# Altium footprint library ICs.PcbLib: 109 footprints (part 4 of 7)
Each footprint in its own frame and in the unit in brackets; x right, y up, seen from the top. Pads: shape width x height; smd on the part's side, far side on the other; paste and mask are expansions set on the pad; w line width, h text height; cw(c..) or ccw(c..) is an arc to the next point about the centre after c.
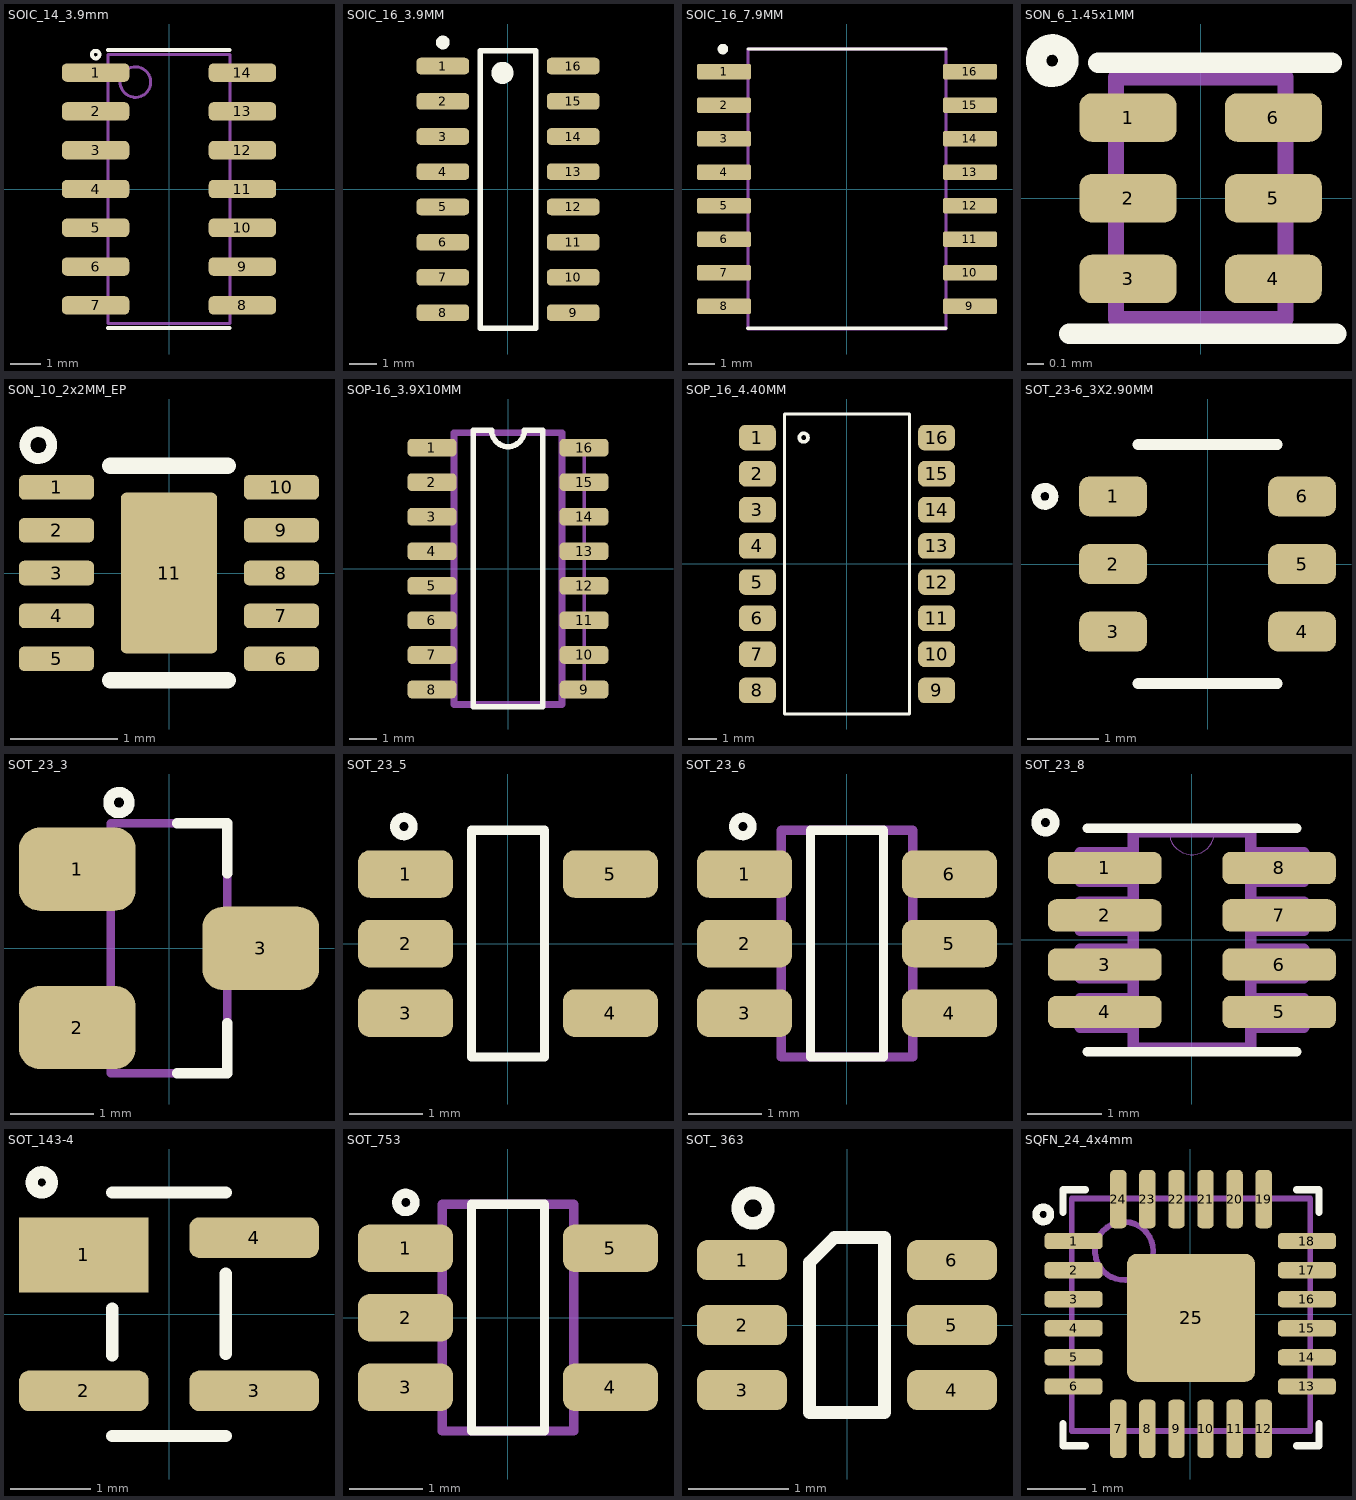
[diagram p3: the footprints below, top view; thin cyan lines are the x and y axes]

## SOIC_14_3.9mm [mm] "SO_14 / 20190225 / C-A.Serna.A"
pads (14):
  rrect50% 2.2x0.6 smd: 1(-2.4,3.81) 2(-2.4,2.54) 3(-2.4,1.27) 4(-2.4,0) 5(-2.4,-1.27) 6(-2.4,-2.54) 7(-2.4,-3.81) 8(2.4,-3.81) 9(2.4,-2.54) 10(2.4,-1.27) 11(2.4,0) 12(2.4,1.27) 13(2.4,2.54) 14(2.4,3.81)
Top Overlay:
  circle w0.127: c-2.4,4.4 r0.125
  lines w0.127: -2.007,-4.547 1.981,-4.547 ; -2.007,4.547 1.981,4.547
Mechanical 1:
  circle w0.1: c-1.1,3.5 r0.5
  lines w0.1: -2,-4.4 -2,4.4 2,4.4 2,-4.4 -2,-4.4
3D body "NOPB.STEP": height 1.75, standoff 0, extent -3,-4.325 3,4.325

## SOIC_16_3.9MM [mm] "/20201210/M-C.Calderon"
pads (16):
  rrect50% 1.9x0.6 smd: 1(-2.35,4.445) 2(-2.35,3.175) 3(-2.35,1.905) 4(-2.35,0.635) 5(-2.35,-0.635) 6(-2.35,-1.905) 7(-2.35,-3.175) 8(-2.35,-4.445) 9(2.35,-4.445) 10(2.35,-3.175) 11(2.35,-1.905) 12(2.35,-0.635) 13(2.35,0.635) 14(2.35,1.905) 15(2.35,3.175) 16(2.35,4.445)
Top Overlay:
  circle w0.25: c-2.35,5.295 r0.125
  circle w0.4: c-0.2,4.2 r0.2
  lines w0.2: -1,-5 -1,5 1,5 1,-5 -1,-5
3D body "TLV5627CD.STEP": height 1.75, standoff 0, extent -2.997,-4.953 2.997,4.953

## SOIC_16_7.9MM [mm] "/20220107/J-E.Pachon"
pads (16):
  rrect25% 2.05x0.59 smd: 1(-4.655,4.445) 2(-4.655,3.175) 3(-4.655,1.905) 4(-4.655,0.635) 5(-4.655,-0.635) 6(-4.655,-1.905) 7(-4.655,-3.175) 8(-4.655,-4.445) 9(4.655,-4.445) 10(4.655,-3.175) 11(4.655,-1.905) 12(4.655,-0.635) 13(4.655,0.635) 14(4.655,1.905) 15(4.655,3.175) 16(4.655,4.445)
Top Overlay:
  circle w0.2: c-4.697,5.3 r0.1
  lines w0.127: -3.76,-5.277 3.74,-5.277 ; -3.75,5.3 3.75,5.3
Mechanical 13:
  lines w0.127: -3.75,-5.288 3.75,-5.288 3.75,5.3 -3.75,5.3 -3.75,-5.288
3D body "DS3231SN.STEP": height 2.65, standoff 0, extent -5.245,-5.15 5.08,5.15

## SON_6_1.45x1MM [mm] "UFDFN_6/20210405/V-A.Patino"
pads (6):
  rrect50% 0.6x0.3 smd: 1(-0.45,0.5) 2(-0.45,0) 3(-0.45,-0.5) 4(0.45,-0.5) 5(0.45,0) 6(0.45,0.5)
Top Overlay:
  circle w0.127: c-0.92,0.853 r0.1
  lines w0.127: -0.813,-0.838 0.838,-0.838 ; -0.636,0.841 0.813,0.838
Mechanical 1:
  lines w0.1: -0.525,-0.75 0.525,-0.75 0.525,0.75 -0.525,0.75 -0.525,-0.75
3D body: height 0.6, standoff 0, extent -0.525,-0.75 0.525,0.75

## SON_10_2x2MM_EP [mm] "WFDFN_10/20210405/V-A.Patino"
height 0.8
pads (11):
  rrect43% 0.7x0.23 smd: 1(-1.05,0.8) 2(-1.05,0.4) 3(-1.05,0) 4(-1.05,-0.4) 5(-1.05,-0.8) 6(1.05,-0.8) 7(1.05,-0.4) 8(1.05,0) 9(1.05,0.4) 10(1.05,0.8)
  rrect11% 0.9x1.5 smd: 11(0,0)
Top Overlay:
  circle w0.1: c-1.219,1.194 r0.125
  lines w0.152: -0.549,1 0.549,1 ; -0.549,-1 0.549,-1
3D body: height 0.8, standoff 0, extent -1,-1 1,1

## SOP-16_3.9X10MM [mm] "/ 20240315 / J.Jaramillo"
pads (16):
  rrect50% 1.8x0.65 smd: 1(-2.794,4.445) 2(-2.794,3.175) 3(-2.794,1.905) 4(-2.794,0.635) 5(-2.794,-0.635) 6(-2.794,-1.905) 7(-2.794,-3.175) 8(-2.794,-4.445) 9(2.794,-4.445) 10(2.794,-3.175) 11(2.794,-1.905) 12(2.794,-0.635) 13(2.794,0.635) 14(2.794,1.905) 15(2.794,3.175) 16(2.794,4.445)
Top Overlay:
  lines w0.203: -1.27,-5.08 1.27,-5.08 1.27,5.08 0.6,5.08 cw(c0,5.08) -0.6,5.08 -1.27,5.08 -1.27,-5.08
Mechanical 1:
  lines w0.127: 2.794,-4.445 2.794,4.445
  lines w0.254: 1.979,-4.991 -1.979,-4.991 -1.979,4.991 1.979,4.991 1.979,-4.991
3D body "step_temp.STEP": height 1.8, standoff 0, extent -3,-5 3,5

## SOP_16_4.40MM [mm] "/20220606/F-A.Ospina"
pads (16):
  rrect50% 1.3x0.9 smd: 1(-3.15,4.445) 2(-3.15,3.175) 3(-3.15,1.905) 4(-3.15,0.635) 5(-3.15,-0.635) 6(-3.15,-1.905) 7(-3.15,-3.175) 8(-3.15,-4.445) 9(3.15,-4.445) 10(3.15,-3.175) 11(3.15,-1.905) 12(3.15,-0.635) 13(3.15,0.635) 14(3.15,1.905) 15(3.15,3.175) 16(3.15,4.445)
Top Overlay:
  circle w0.127: c-1.524,4.445 r0.152
  lines w0.102: -2.2,5.275 2.2,5.275 ; -2.2,5.275 -2.2,-5.275 2.2,-5.275 2.2,5.275 ; -2.2,5.275 2.2,5.275
3D body "SO16_VISHAY_TCMT410X_VIS.step": height 2.11, standoff 0, extent -3.447,-5.194 3.447,5.194

## SOT_23-6_3X2.90MM [mil] "/20220901/F-A.Ospina"
pads (6):
  rrect50% 37.5x22 smd: 1(-52.25,37.4) 2(-52.25,0) 3(-52.25,-37.4) 4(52.25,-37.4) 5(52.25,0) 6(52.25,37.4)
Top Overlay:
  circle w5: c-90,37.4 r4.92
  lines w6: -38.5,-66 38.5,-66 ; -38.5,66 38.5,66
3D body "SOT26-A1_DIO.step": height 57.09, standoff 0, extent -57,-60.98 57.01,60.99

## SOT_23_3 [mm] "/20200728/M-C.CalderonC"
pads (3):
  rrect50% 1.4x1 smd: 1(-1.1,0.95) 2(-1.1,-0.95) 3(1.1,0)
Top Overlay:
  circle w0.127: c-0.6,1.75 r0.125
  lines w0.127: 0.1,-1.5 0.7,-1.5 0.7,-0.9 ; 0.1,1.5 0.7,1.5 0.7,0.9
Mechanical 1:
  lines w0.1: -0.7,-1.5 0.7,-1.5 0.7,1.5 -0.7,1.5 -0.7,-1.5
3D body: height 1.1, standoff 0.1, extent -0.7,-1.5 0.7,1.5

## SOT_23_5 [mm] "/ 20220804/ J-E.Pachon"
height 1.45
pads (5):
  rrect50% 1.3x0.65 smd: 1(-1.4,0.95) 2(-1.4,0) 3(-1.4,-0.95) 4(1.4,-0.95) 5(1.4,0.95)
Top Overlay:
  circle w0.127: c-1.422,1.6 r0.125
  lines w0.127: -0.5,-1.55 -0.5,1.55 0.5,1.55 0.5,-1.55 -0.5,-1.55
3D body "SOT-23-5_MC_MCH.step": height 1.45, standoff 0, extent -1.6,-1.549 1.6,1.549

## SOT_23_6 [mm] "/ 20190225 / C-A.Serna.A"
height 1.45
pads (6):
  rrect50% 1.3x0.65 smd: 1(-1.4,0.95) 2(-1.4,0) 3(-1.4,-0.95) 4(1.4,-0.95) 5(1.4,0) 6(1.4,0.95)
Top Overlay:
  circle w0.127: c-1.422,1.6 r0.125
  lines w0.127: -0.5,-1.55 0.5,-1.55 0.5,1.55 -0.5,1.55 -0.5,-1.55
Mechanical 1:
  lines w0.127: -0.9,-1.55 0.9,-1.55 0.9,1.55 -0.9,1.55 -0.9,-1.55
3D body "SOT23-6-2.step": height 1.45, standoff 0, extent -1.501,-1.45 1.299,1.45

## SOT_23_8 [mil] "/20220107/J-E.Pachon"
pads (8):
  rrect50% 60x17 smd: 1(-46,38) 2(-46,13) 3(-46,-13) 4(-46,-38) 5(46,-38) 6(46,-13) 7(46,13) 8(46,38)
Top Overlay:
  circle w5: c-77.35,61.96 r4.92
  lines w5: -55.19,-59.06 55.19,-59.06 ; -55.19,59.05 55.19,59.05
Mechanical 13:
  lines w0: -12,57 ccw(c0,57) 12,57
  lines w6: -31,-46 -59,-46 -59,-31 -31,-31 ; -31,-46 -31,-31 ; -31,-46 -31,-57 31,-57 31,-46 ; -31,-31 -31,-20 ; -31,-20 -59,-20 -59,-5 -31,-5 ; -31,-20 -31,-5 ; -31,-5 -31,5 ; -31,5 -59,5 -59,20 -31,20 ; -31,5 -31,20 ; -31,20 -31,31 ; -31,31 -59,31 -59,46 -31,46 ; -31,31 -31,46 ; -31,46 -31,57 -12,57 12,57 31,57 31,46 ; 31,-46 59,-46 59,-31 31,-31 ; 31,-46 31,-31 ; 31,-31 31,-20 ; 31,-20 59,-20 59,-5 31,-5 ; 31,-20 31,-5 ; 31,-5 31,5 ; 31,5 59,5 59,20 31,20 ; 31,5 31,20 ; 31,20 31,31 ; 31,31 59,31 59,46 31,46 ; 31,31 31,46
3D body "SOT23-8.step": height 43.81, standoff 0.21, extent -55.19,-59.06 55.19,59.05

## SOT_143-4 [mil] "TO-253-4, TO-253AA/ 20230810/ N-A.Potosi"
height 57.09
pads (4):
  rect 64x37 smd: 1(-42,29.3)
  rrect50% 64x20 smd: 2(-42,-37.8) 3(42,-37.8) 4(42,37.8)
Top Overlay:
  lines w6: -28,-60 28,-60 ; -28,-20.24 -28,2.89 ; -28,60 28,60 ; 28,-19.47 28,19.99 ; -62.75,60.05 cw(c-62.75,65.05) -62.75,70.05 cw(c-62.75,65.05) -62.75,60.05
3D body "SOT143-4_STM.step": height 44.09, standoff 0, extent -52.01,-60 52.01,60

## SOT_753 [mm] "SOT-23-5, SC-74A / 20190225 / C-A.Serna.A"
height 1.45
pads (5):
  rrect50% 1.3x0.65 smd: 1(-1.4,0.95) 2(-1.4,0) 3(-1.4,-0.95) 4(1.4,-0.95) 5(1.4,0.95)
Top Overlay:
  circle w0.127: c-1.397,1.575 r0.125
  lines w0.127: -0.5,-1.55 0.5,-1.55 0.5,1.55 -0.5,1.55 -0.5,-1.55
Mechanical 1:
  lines w0.127: -0.9,-1.55 0.9,-1.55 0.9,1.55 -0.9,1.55 -0.9,-1.55
3D body "SOT-753.step": height 1.45, standoff 0, extent -1.7,-1.55 1.7,1.55

## SOT_ 363 [mm] "TSSOP-6, SC-88, SOT-363 / 20190225 / C-A.Serna.A"
pads (6):
  rrect50% 0.9x0.4 smd: 1(-1.05,0.65) 2(-1.05,0) 3(-1.05,-0.65) 4(1.05,-0.65) 5(1.05,0) 6(1.05,0.65)
Top Overlay:
  circle w0.127: c-0.94,1.168 r0.152
  lines w0.127: -0.375,-0.875 -0.375,0.625 -0.125,0.875 0.375,0.875 0.375,-0.875 -0.375,-0.875
3D body: height 0.4, standoff 0, extent -0.625,-1.025 0.625,1.075

## SQFN_24_4x4mm [mm] "24-VFQFN Exposed Pad / 20190225 / C-A.Serna.A"
height 1
pads (25):
  rrect50% 1x0.28 smd: 1(-2.005,1.254) 2(-2.005,0.754) 3(-2.005,0.254) 4(-2.005,-0.246) 5(-2.005,-0.746) 6(-2.005,-1.246) 13(2.005,-1.246) 14(2.005,-0.746) 15(2.005,-0.246) 16(2.005,0.254) 17(2.005,0.754) 18(2.005,1.254)
  rrect50% 0.28x1 smd: 7(-1.237,-1.974) 8(-0.737,-1.974) 9(-0.237,-1.974) 10(0.263,-1.974) 11(0.763,-1.974) 12(1.263,-1.974) 19(1.263,1.974) 20(0.763,1.974) 21(0.263,1.974) 22(-0.237,1.974) 23(-0.737,1.974) 24(-1.237,1.974)
  rrect15% 2.2x2.2 smd: 25(0.013,-0.066)
Top Overlay:
  circle w0.127: c-2.527,1.712 r0.125
  lines w0.127: -2.187,-1.883 -2.187,-2.266 -1.804,-2.266 ; -2.187,1.751 -2.187,2.134 -1.804,2.134 ; 1.83,-2.266 2.213,-2.266 2.213,-1.883 ; 1.83,2.134 2.213,2.134 2.213,1.751
Mechanical 1:
  circle w0.1: c-1.137,1.084 r0.5
  lines w0.1: -2.037,-2.014 2.063,-2.014 2.063,1.984 -2.037,1.984 -2.037,-2.014
3D body "User Library-QFN24_4x4.STEP": height -0.4, standoff -1.4, extent -1.993,-2.021 2.027,1.999